# EAGLE library part 805-118 (library con-wago_805)
Serie 805, Klemmenleiste für Leiterplatten 1 Lötstift/Pol versetzt / Series 805, PCB terminal strip 1 solder pin/pole, staggered Polzahl / Pole No.: 18 Bemessungsspannung / Rated Voltage: 320 V Nennstrom / Nominal Current: 17.5 A Leiterquerschnitt / Conductor Size: 0.2 - 1.5 mm² Anschlusstechnik / Connection Technology: CAGE CLAMP® S Lötstiftlänge: / Solder Pin Length: 3.2 mm Leitereinführung (zur Platine) / Conductor entry angle (to PCB): 0 ° Farbe / Color: grau / gray Stand: 01.01.2012. Die jeweils aktuellen Daten zu diesem Artikel finden Sie in unserem Produktkatalog, den Sie unter www.wago.com einsehen können. As of: 01/01/2012. Please find the newest data for this article in our product catalogue, which can be viewed under www.wago.com.
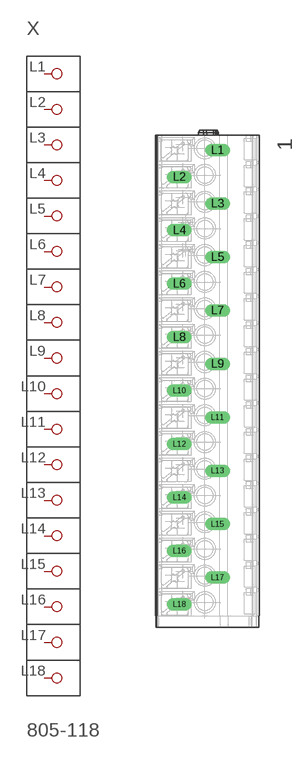
[diagram p12: symbol with the pads of P-805-118; footprint P-805-118]

Designator prefix X

## 805-118  [P-805-118]
L1  P1
L2  P2
L3  P3
L4  P4
L5  P5
L6  P6
L7  P7
L8  P8
L9  P9
L10  P10
L11  P11
L12  P12
L13  P13
L14  P14
L15  P15
L16  P16
L17  P17
L18  P18

## Footprint P-805-118 (pad centres in mm)
drill 1.1 long: L1 1.3,29.95; L2 -3.7,26.45; L3 1.3,22.95; L4 -3.7,19.45; L5 1.3,15.95; L6 -3.7,12.45; L7 1.3,8.95; L8 -3.7,5.45; L9 1.3,1.95; L10 -3.7,-1.55; L11 1.3,-5.05; L12 -3.7,-8.55; L13 1.3,-12.05; L14 -3.7,-15.55; L15 1.3,-19.05; L16 -3.7,-22.55; L17 1.3,-26.05; L18 -3.7,-29.55